# Altium footprint library RaspComputeModule_4_IO.PcbLib: 40 footprints (part 2 of 3)
Each footprint in its own frame and in the unit in brackets; x right, y up, seen from the top. Pads: shape width x height; smd on the part's side, far side on the other; paste and mask are expansions set on the pad; w line width, h text height; cw(c..) or ccw(c..) is an arc to the next point about the centre after c.
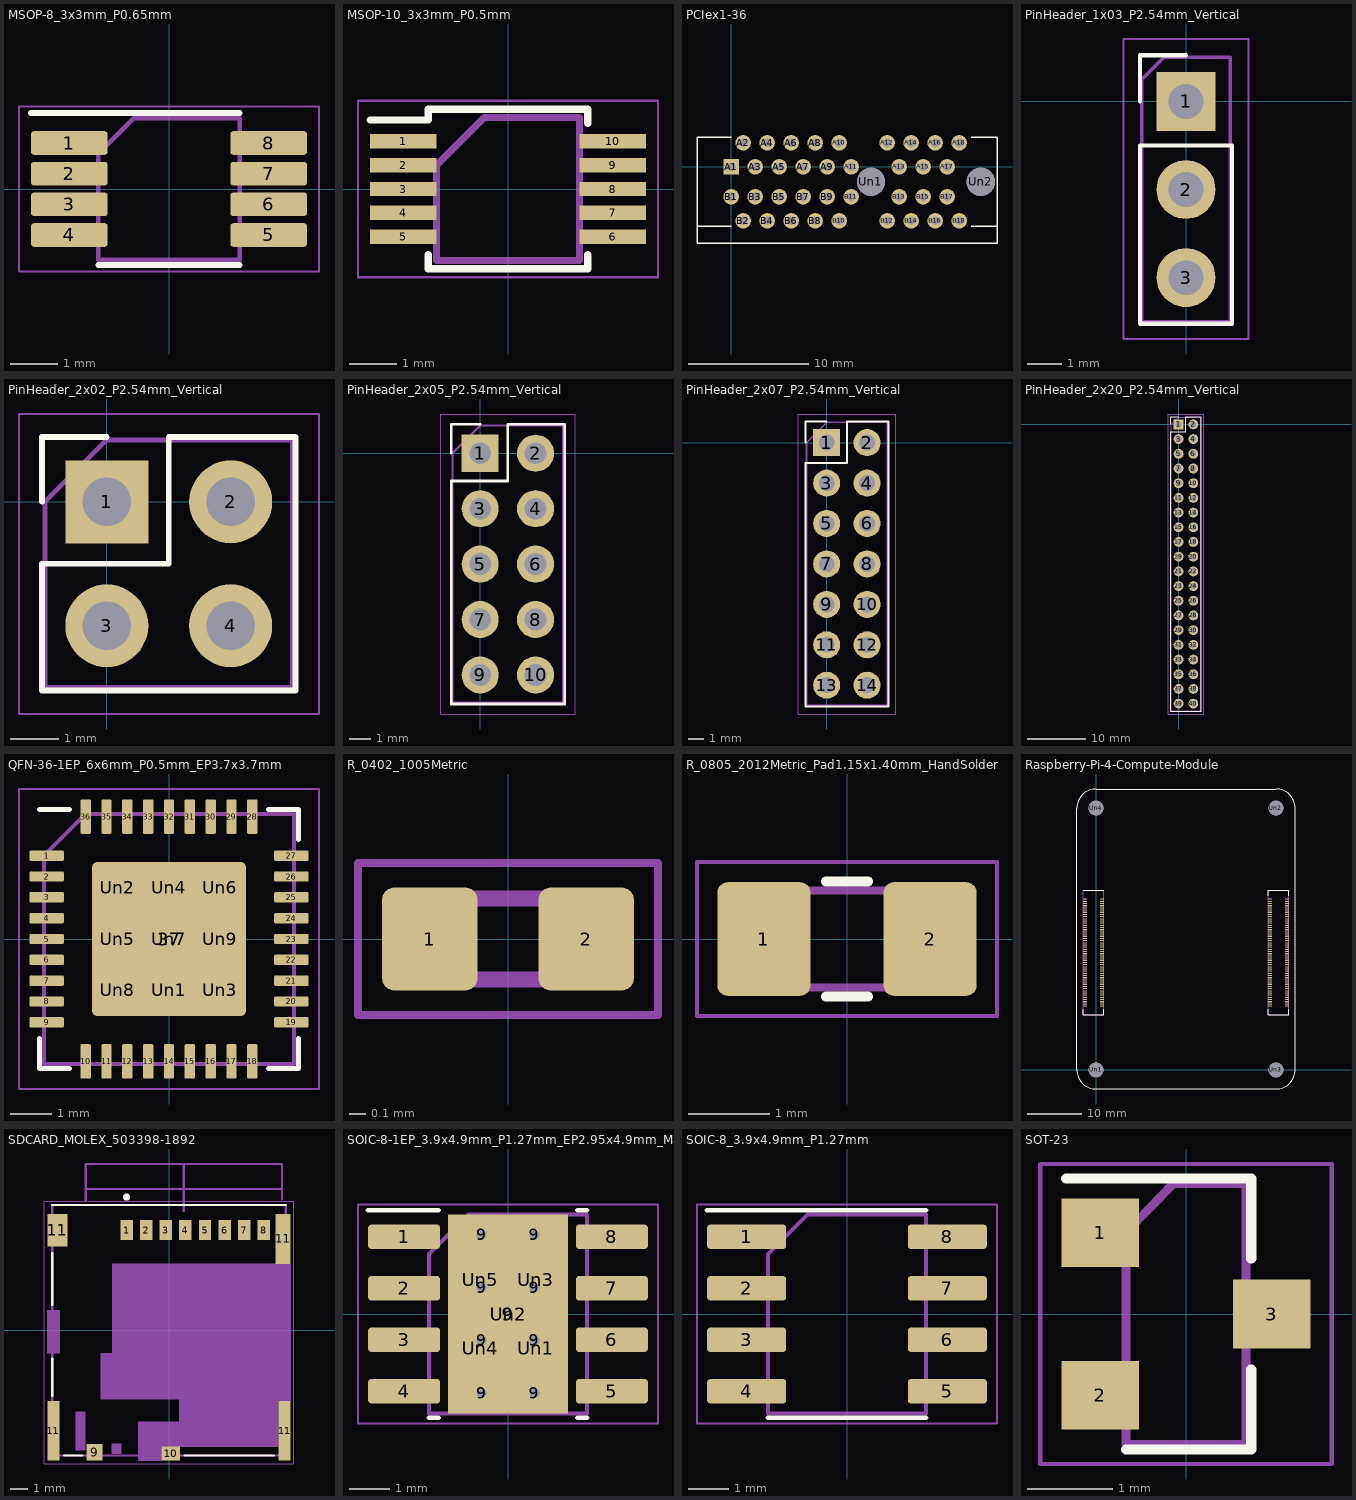
[diagram p1: the footprints below, top view; thin cyan lines are the x and y axes]

## MSOP-8_3x3mm_P0.65mm [mm]
pads (8):
  rrect25% 1.625x0.5 smd mask+0: 1(-2.113,0.975) 2(-2.113,0.325) 3(-2.113,-0.325) 4(-2.113,-0.975) 5(2.113,-0.975) 6(2.113,-0.325) 7(2.113,0.325) 8(2.113,0.975)
Top Overlay:
  lines w0.12: -2.925,1.61 0,1.61 1.5,1.61 ; -1.5,-1.61 0,-1.61 1.5,-1.61
Mechanical 4:
  lines w0.05: -3.18,-1.75 3.18,-1.75 3.18,1.75 -3.18,1.75 -3.18,-1.75
Mechanical 6:
  lines w0.1: -1.5,-1.5 1.5,-1.5 1.5,1.5 -0.75,1.5 -1.5,0.75 -1.5,-1.5
  text "${REFERENCE}" at -4.773,-0.912 h1

## MSOP-10_3x3mm_P0.5mm [mm]
pads (10):
  rect 1.4x0.3 smd mask+0: 1(-2.2,1) 2(-2.2,0.5) 3(-2.2,0) 4(-2.2,-0.5) 5(-2.2,-1) 6(2.2,-1) 7(2.2,-0.5) 8(2.2,0) 9(2.2,0.5) 10(2.2,1)
Top Overlay:
  lines w0.15: -2.9,1.45 -1.675,1.45 -1.675,1.675 1.675,1.675 1.675,1.375 ; -1.675,-1.375 -1.675,-1.675 1.675,-1.675 1.675,-1.375
Mechanical 4:
  lines w0.05: -3.15,-1.85 3.15,-1.85 3.15,1.85 -3.15,1.85 -3.15,-1.85
Mechanical 6:
  lines w0.15: -1.5,-1.5 1.5,-1.5 1.5,1.5 -0.5,1.5 -1.5,0.5 -1.5,-1.5
  text "${REFERENCE}" at -2.924,-0.607 h0.6

## PCIex1-36 [mm]
pads (38):
  rect 1.3x1.3 hole 0.7 paste-1.3: A1(0,0)
  round 1.3 hole 0.7 paste-1.3: A2(1,2) A3(2,0) A4(3,2) A5(4,0) A6(5,2) A7(6,0) A8(7,2) A9(8,0) A10(9,2) A11(10,0) A12(13,2) A13(14,0) A14(15,2) A15(16,0) A16(17,2) A17(18,0) A18(19,2) B1(0,-2.5) B2(1,-4.5) B3(2,-2.5) B4(3,-4.5) B5(4,-2.5) B6(5,-4.5) B7(6,-2.5) B8(7,-4.5) B9(8,-2.5) B10(9,-4.5) B11(10,-2.5) B12(13,-4.5) B13(14,-2.5) B14(15,-4.5) B15(16,-2.5) B16(17,-4.5) B17(18,-2.5) B18(19,-4.5)
  round 2.35 hole 2.35 paste-2.35: Un1(11.65,-1.25) Un2(20.8,-1.25)
Top Overlay:
  lines w0.12: -2.85,-4.95 0,-4.95 ; 0,2.45 -2.85,2.45 -2.85,-6.35 22.15,-6.35 22.15,2.45 20,2.45 ; 20,-4.95 22.15,-4.95

## PinHeader_1x03_P2.54mm_Vertical [mm]
pads (3):
  rect 1.7x1.7 hole 1 paste-1.7: 1(0,0)
  rrect100% 1.7x1.7 hole 1 paste-1.7: 2(0,-2.54) 3(0,-5.08)
Top Overlay:
  lines w0.12: -1.33,0 -1.33,1.33 0,1.33 ; -1.33,-6.41 1.33,-6.41 1.33,-1.27 -1.33,-1.27 -1.33,-6.41
Mechanical 4:
  lines w0.05: -1.8,-6.85 1.8,-6.85 1.8,1.8 -1.8,1.8 -1.8,-6.85
Mechanical 6:
  lines w0.1: -1.27,-6.35 -1.27,0.635 -0.635,1.27 1.27,1.27 1.27,-6.35 -1.27,-6.35
  text "${REFERENCE}" at 0.912,-7.313 h1

## PinHeader_2x02_P2.54mm_Vertical [mm]
pads (4):
  rect 1.7x1.7 hole 1 paste-1.7: 1(0,0)
  rrect100% 1.7x1.7 hole 1 paste-1.7: 2(2.54,0) 3(0,-2.54) 4(2.54,-2.54)
Top Overlay:
  lines w0.12: -1.33,0 -1.33,1.33 0,1.33 ; -1.33,-3.87 -1.33,-1.27 1.27,-1.27 1.27,1.33 3.87,1.33 3.87,-3.87 -1.33,-3.87
Mechanical 4:
  lines w0.05: -1.8,-4.35 -1.8,1.8 4.35,1.8 4.35,-4.35 -1.8,-4.35
Mechanical 6:
  lines w0.1: -1.27,-3.81 -1.27,0 0,1.27 3.81,1.27 3.81,-3.81 -1.27,-3.81
  text "${REFERENCE}" at 2.182,-6.043 h1

## PinHeader_2x05_P2.54mm_Vertical [mm]
pads (10):
  rect 1.7x1.7 hole 1 paste-1.7: 1(0,0)
  rrect100% 1.7x1.7 hole 1 paste-1.7: 2(2.54,0) 3(0,-2.54) 4(2.54,-2.54) 5(0,-5.08) 6(2.54,-5.08) 7(0,-7.62) 8(2.54,-7.62) 9(0,-10.16) 10(2.54,-10.16)
Top Overlay:
  lines w0.12: -1.33,0 -1.33,1.33 0,1.33 ; -1.33,-11.49 3.87,-11.49 3.87,1.33 1.27,1.33 1.27,-1.27 -1.33,-1.27 -1.33,-11.49
Mechanical 4:
  lines w0.05: -1.8,-11.95 4.35,-11.95 4.35,1.8 -1.8,1.8 -1.8,-11.95
Mechanical 6:
  lines w0.1: -1.27,-11.43 3.81,-11.43 3.81,1.27 0,1.27 -1.27,0 -1.27,-11.43
  text "${REFERENCE}" at 2.182,-9.853 h1

## PinHeader_2x07_P2.54mm_Vertical [mm]
pads (14):
  rect 1.7x1.7 hole 1 paste-1.7: 1(0,0)
  rrect100% 1.7x1.7 hole 1 paste-1.7: 2(2.54,0) 3(0,-2.54) 4(2.54,-2.54) 5(0,-5.08) 6(2.54,-5.08) 7(0,-7.62) 8(2.54,-7.62) 9(0,-10.16) 10(2.54,-10.16) 11(0,-12.7) 12(2.54,-12.7) 13(0,-15.24) 14(2.54,-15.24)
Top Overlay:
  lines w0.12: -1.33,0 -1.33,1.33 0,1.33 ; -1.33,-16.57 -1.33,-1.27 1.27,-1.27 1.27,1.33 3.87,1.33 3.87,-16.57 -1.33,-16.57
Mechanical 4:
  lines w0.05: -1.8,-17.05 4.35,-17.05 4.35,1.8 -1.8,1.8 -1.8,-17.05
Mechanical 6:
  lines w0.1: -1.27,-16.51 3.81,-16.51 3.81,1.27 0,1.27 -1.27,0 -1.27,-16.51
  text "${REFERENCE}" at 0.358,-2.847 h1

## PinHeader_2x20_P2.54mm_Vertical [mm]
pads (40):
  rect 1.7x1.7 hole 1 paste-1.7: 1(0,0)
  rrect100% 1.7x1.7 hole 1 paste-1.7: 2(2.54,0) 3(0,-2.54) 4(2.54,-2.54) 5(0,-5.08) 6(2.54,-5.08) 7(0,-7.62) 8(2.54,-7.62) 9(0,-10.16) 10(2.54,-10.16) 11(0,-12.7) 12(2.54,-12.7) 13(0,-15.24) 14(2.54,-15.24) 15(0,-17.78) 16(2.54,-17.78) 17(0,-20.32) 18(2.54,-20.32) 19(0,-22.86) 20(2.54,-22.86) 21(0,-25.4) 22(2.54,-25.4) 23(0,-27.94) 24(2.54,-27.94) 25(0,-30.48) 26(2.54,-30.48) 27(0,-33.02) 28(2.54,-33.02) 29(0,-35.56) 30(2.54,-35.56) 31(0,-38.1) 32(2.54,-38.1) 33(0,-40.64) 34(2.54,-40.64) 35(0,-43.18) 36(2.54,-43.18) 37(0,-45.72) 38(2.54,-45.72) 39(0,-48.26) 40(2.54,-48.26)
Top Overlay:
  lines w0.12: -1.33,0 -1.33,1.33 0,1.33 ; -1.33,-49.59 3.87,-49.59 3.87,1.33 1.27,1.33 1.27,-1.27 -1.33,-1.27 -1.33,-49.59
Mechanical 4:
  lines w0.05: -1.8,-50.05 4.35,-50.05 4.35,1.8 -1.8,1.8 -1.8,-50.05
Mechanical 6:
  lines w0.1: -1.27,-49.53 -1.27,0 0,1.27 3.81,1.27 3.81,-49.53 -1.27,-49.53
  text "${REFERENCE}" at 0.358,-19.357 h1

## QFN-36-1EP_6x6mm_P0.5mm_EP3.7x3.7mm [mm]
pads (46):
  rrect25% 0.825x0.25 smd mask+0: 1(-2.937,2) 2(-2.937,1.5) 3(-2.937,1) 4(-2.937,0.5) 5(-2.937,0) 6(-2.937,-0.5) 7(-2.937,-1) 8(-2.937,-1.5) 9(-2.937,-2) 19(2.937,-2) 20(2.937,-1.5) 21(2.937,-1) 22(2.937,-0.5) 23(2.937,0) 24(2.937,0.5) 25(2.937,1) 26(2.937,1.5) 27(2.937,2)
  rrect25% 0.25x0.825 smd mask+0: 10(-2,-2.937) 11(-1.5,-2.937) 12(-1,-2.937) 13(-0.5,-2.937) 14(0,-2.937) 15(0.5,-2.937) 16(1,-2.937) 17(1.5,-2.937) 18(2,-2.937) 28(2,2.937) 29(1.5,2.937) 30(1,2.937) 31(0.5,2.937) 32(0,2.937) 33(-0.5,2.937) 34(-1,2.937) 35(-1.5,2.937) 36(-2,2.937)
  rrect7% 3.7x3.7 smd paste-3.7 mask+0: 37(0,0)
  rrect50% 0.99x0.99 on Top Paste mask-0.99: Un1(0,-1.23) Un2(-1.23,1.23) Un3(1.23,-1.23) Un4(0,1.23) Un5(-1.23,0) Un6(1.23,1.23) Un7(0,0) Un8(-1.23,-1.23) Un9(1.23,0)
Top Overlay:
  lines w0.12: -3.11,-2.385 -3.11,-3.11 -2.385,-3.11 ; -3.11,3.11 -2.385,3.11 ; 2.385,-3.11 3.11,-3.11 3.11,-2.385 ; 2.385,3.11 3.11,3.11 3.11,2.385
Mechanical 4:
  lines w0.05: -3.6,-3.6 -3.6,3.6 3.6,3.6 3.6,-3.6 -3.6,-3.6
Mechanical 6:
  lines w0.1: -3,-3 -3,2 -2,3 3,3 3,-3 -3,-3
  text "${REFERENCE}" at -4.773,-0.912 h1

## R_0402_1005Metric [mm]
pads (2):
  rrect25% 0.59x0.64 smd mask+0: 1(-0.485,0) 2(0.485,0)
Mechanical 4:
  lines w0.05: -0.93,-0.47 -0.93,0.47 0.93,0.47 0.93,-0.47 -0.93,-0.47
Mechanical 6:
  lines w0.1: -0.5,-0.25 0.5,-0.25 0.5,0.25 -0.5,0.25 -0.5,-0.25
  text "${REFERENCE}" at -1.196,-0.23 h0.25

## R_0805_2012Metric_Pad1.15x1.40mm_HandSolder [mm]
pads (2):
  rrect22% 1.15x1.4 smd mask+0: 1(-1.025,0) 2(1.025,0)
Top Overlay:
  lines w0.12: -0.261,-0.71 0.261,-0.71 ; -0.261,0.71 0.261,0.71
Mechanical 4:
  lines w0.05: -1.85,-0.95 -1.85,0.95 1.85,0.95 1.85,-0.95 -1.85,-0.95
Mechanical 6:
  lines w0.1: -1,-0.6 -1,0.6 1,0.6 1,-0.6 -1,-0.6
  text "${REFERENCE}" at -2.391,-0.461 h0.5

## Raspberry-Pi-4-Compute-Module [mm]
pads (204):
  rect 0.7x0.2 smd mask+0: 1(-2,31.3) 2(1.08,31.3) 3(-2,30.9) 4(1.08,30.9) 5(-2,30.5) 6(1.08,30.5) 7(-2,30.1) 8(1.08,30.1) 9(-2,29.7) 10(1.08,29.7) 11(-2,29.3) 12(1.08,29.3) 13(-2,28.9) 14(1.08,28.9) 15(-2,28.5) 16(1.08,28.5) 17(-2,28.1) 18(1.08,28.1) 19(-2,27.7) 20(1.08,27.7) 21(-2,27.3) 22(1.08,27.3) 23(-2,26.9) 24(1.08,26.9) 25(-2,26.5) 26(1.08,26.5) 27(-2,26.1) 28(1.08,26.1) 29(-2,25.7) 30(1.08,25.7) 31(-2,25.3) 32(1.08,25.3) 33(-2,24.9) 34(1.08,24.9) 35(-2,24.5) 36(1.08,24.5) 37(-2,24.1) 38(1.08,24.1) 39(-2,23.7) 40(1.08,23.7) 41(-2,23.3) 42(1.08,23.3) 43(-2,22.9) 44(1.08,22.9) 45(-2,22.5) 46(1.08,22.5) 47(-2,22.1) 48(1.08,22.1) 49(-2,21.7) 50(1.08,21.7) 51(-2,21.3) 52(1.08,21.3) 53(-2,20.9) 54(1.08,20.9) 55(-2,20.5) 56(1.08,20.5) 57(-2,20.1) 58(1.08,20.1) 59(-2,19.7) 60(1.08,19.7) 61(-2,19.3) 62(1.08,19.3) 63(-2,18.9) 64(1.08,18.9) 65(-2,18.5) 66(1.08,18.5) 67(-2,18.1) 68(1.08,18.1) 69(-2,17.7) 70(1.08,17.7) 71(-2,17.3) 72(1.08,17.3) 73(-2,16.9) 74(1.08,16.9) 75(-2,16.5) 76(1.08,16.5) 77(-2,16.1) 78(1.08,16.1) 79(-2,15.7) 80(1.08,15.7) 81(-2,15.3) 82(1.08,15.3) 83(-2,14.9) 84(1.08,14.9) 85(-2,14.5) 86(1.08,14.5) 87(-2,14.1) 88(1.08,14.1) 89(-2,13.7) 90(1.08,13.7) 91(-2,13.3) 92(1.08,13.3) 93(-2,12.9) 94(1.08,12.9) 95(-2,12.5) 96(1.08,12.5) 97(-2,12.1) 98(1.08,12.1) 99(-2,11.7) 100(1.08,11.7) 101(31.92,31.3) 102(35,31.3) 103(31.92,30.9) 104(35,30.9) 105(31.92,30.5) 106(35,30.5) 107(31.92,30.1) 108(35,30.1) 109(31.92,29.7) 110(35,29.7) 111(31.92,29.3) 112(35,29.3) 113(31.92,28.9) 114(35,28.9) 115(31.92,28.5) 116(35,28.5) 117(31.92,28.1) 118(35,28.1) 119(31.92,27.7) 120(35,27.7) 121(31.92,27.3) 122(35,27.3) 123(31.92,26.9) 124(35,26.9) 125(31.92,26.5) 126(35,26.5) 127(31.92,26.1) 128(35,26.1) 129(31.92,25.7) 130(35,25.7) 131(31.92,25.3) 132(35,25.3) 133(31.92,24.9) 134(35,24.9) 135(31.92,24.5) 136(35,24.5) 137(31.92,24.1) 138(35,24.1) 139(31.92,23.7) 140(35,23.7) 141(31.92,23.3) 142(35,23.3) 143(31.92,22.9) 144(35,22.9) 145(31.92,22.5) 146(35,22.5) 147(31.92,22.1) 148(35,22.1) 149(31.92,21.7) 150(35,21.7) 151(31.92,21.3) 152(35,21.3) 153(31.92,20.9) 154(35,20.9) 155(31.92,20.5) 156(35,20.5) 157(31.92,20.1) 158(35,20.1) 159(31.92,19.7) 160(35,19.7) 161(31.92,19.3) 162(35,19.3) 163(31.92,18.9) 164(35,18.9) 165(31.92,18.5) 166(35,18.5) 167(31.92,18.1) 168(35,18.1) 169(31.92,17.7) 170(35,17.7) 171(31.92,17.3) 172(35,17.3) 173(31.92,16.9) 174(35,16.9) 175(31.92,16.5) 176(35,16.5) 177(31.92,16.1) 178(35,16.1) 179(31.92,15.7) 180(35,15.7) 181(31.92,15.3) 182(35,15.3) 183(31.92,14.9) 184(35,14.9) 185(31.92,14.5) 186(35,14.5) 187(31.92,14.1) 188(35,14.1) 189(31.92,13.7) 190(35,13.7) 191(31.92,13.3) 192(35,13.3) 193(31.92,12.9) 194(35,12.9) 195(31.92,12.5) 196(35,12.5) 197(31.92,12.1) 198(35,12.1) 199(31.92,11.7) 200(35,11.7)
  round 2.7 hole 2.7 paste-2.7 mask+1.7: Un1(0,0) Un2(33,48) Un3(33,0) Un4(0,48)
Top Overlay:
  lines w0.12: -2.35,11.1 -2.35,10.1 1.43,10.1 1.43,11.1 ; -2.35,32.9 1.43,32.9 ; 31.57,11.1 31.57,10.1 35.35,10.1 35.35,11.1 ; 31.57,31.9 31.57,32.9 35.35,32.9 35.35,31.9 ; -3.5,0 ccw(c0,0) 0,-3.5 33,-3.5 ccw(c33,0) 36.5,0 36.5,48 ccw(c33,48) 33,51.5 0,51.5 ccw(c0,48) -3.5,48 -3.5,0
Mechanical 4:
  lines w0.12: -2.35,10.1 1.43,10.1 1.43,32.9 -2.35,32.9 -2.35,10.1 ; 31.57,10.1 31.57,32.9 35.35,32.9 35.35,10.1 31.57,10.1

## SDCARD_MOLEX_503398-1892 [mm]
pads (14):
  rect 0.7x1.1 smd mask+0: 1(-2.38,5.625) 2(-1.28,5.625) 3(-0.18,5.625) 4(0.92,5.625) 5(2.02,5.625) 6(3.12,5.625) 7(4.22,5.625) 8(5.32,5.625)
  rect 0.9x0.93 smd mask+0: 9(-4.17,-6.84)
  rect 1.05x0.78 smd mask+0: 10(0.095,-6.915)
  rect 0.7x3.33 smd mask+0: 11(-6.48,-5.64) 11(6.48,-5.64)
  rect 1.14x1.83 smd mask+0: 11(-6.26,5.61)
  rect 0.86x2.8 smd mask+0: 11(6.4,5.125)
Top Overlay:
  circle w0.2: c-2.38,7.475 r0.1
  lines w0.127: -6.55,-3.675 -6.55,-1.575 ; -6.55,1.425 -6.55,4.325 ; -6.55,7.025 6.55,7.025 ; -5.876,-7.025 -4.874,-7.025 ; 0.874,-7.025 5.876,-7.025
Mechanical 2:
  region: -4.685,-6.738 -5.245,-6.738 -5.245,-4.575 -4.685,-4.575
  region: -6.13,-1.277 -6.842,-1.277 -6.842,1.125 -6.13,1.125
  region: -4.685,-6.73 -5.239,-6.73 -5.239,-4.575 -4.685,-4.575
  region: -2.67,-6.937 -3.225,-6.937 -3.225,-6.375 -2.67,-6.375
  region: 6.83,-3.975 6.13,-3.975 6.13,-6.525 -0.43,-6.525 -0.43,-7.305 -1.73,-7.305 -1.73,-5.125 0.57,-5.125 0.57,-3.875 -3.82,-3.875 -3.82,-1.275 -3.17,-1.275 -3.17,3.725 6.83,3.725
  region: -2.67,-6.93 -3.223,-6.93 -3.223,-6.375 -2.67,-6.375
  region: 6.83,-3.975 6.13,-3.975 6.13,-6.525 -0.43,-6.525 -0.43,-7.305 -1.73,-7.305 -1.73,-5.125 0.57,-5.125 0.57,-3.875 -3.82,-3.875 -3.82,-1.275 -3.17,-1.275 -3.17,3.725 6.83,3.725
  region: -6.13,-1.276 -6.836,-1.276 -6.836,1.125 -6.13,1.125
  lines w0.12: -4.67,7.28 -4.67,9.33 6.33,9.33 6.33,7.35 ; -4.67,7.93 6.33,7.93 ; 0.83,6.7 0.83,9.33
Mechanical 4:
  lines w0.05: -7,-7.5 7,-7.5 7,7.25 -7,7.25 -7,-7.5
Mechanical 6:
  circle w0.2: c-2.38,5.775 r0.1
  lines w0.127: -6.55,-7.025 -6.55,7.025 6.55,7.025 6.55,-7.025 -6.55,-7.025
  text "${REFERENCE}" at 4.698,-0.613 h1
Mechanical 7:
  text "KEEPOUT" at 0.526,5.06 h0.4

## SOIC-8-1EP_3.9x4.9mm_P1.27mm_EP2.95x4.9mm_Mask2.71x3.4mm_ThermalVias [mm]
pads (23):
  rrect25% 1.775x0.6 smd mask+0: 1(-2.562,1.905) 2(-2.562,0.635) 3(-2.562,-0.635) 4(-2.562,-1.905) 5(2.562,-1.905) 6(2.562,-0.635) 7(2.562,0.635) 8(2.562,1.905)
  round 0.5 hole 0.25 paste-0.5 mask-0.5: 9(-0.65,-1.95) 9(-0.65,-0.65) 9(-0.65,0.65) 9(-0.65,1.95) 9(0.65,-1.95) 9(0.65,-0.65) 9(0.65,0.65) 9(0.65,1.95)
  rect 2.95x4.9 smd paste-4.9 mask-4.9: 9(0,0)
  rect 1.8x4.4 smd far side paste-4.4 mask+0.1: 9(0,0)
  rrect50% 1.13x1.42 on Top Paste mask-1.42: Un1(0.68,-0.85) Un3(0.68,0.85) Un4(-0.68,-0.85) Un5(-0.68,0.85)
  rect 2.71x3.4 on Top Solder paste-3.4 mask-3.4: Un2(0,0)
Top Overlay:
  lines w0.12: -3.45,2.56 -1.711,2.56 ; -1.95,-2.56 -1.711,-2.56 ; 1.711,-2.56 1.95,-2.56 ; 1.711,2.56 1.95,2.56
Mechanical 4:
  lines w0.05: -3.7,-2.7 3.7,-2.7 3.7,2.7 -3.7,2.7 -3.7,-2.7
Mechanical 6:
  lines w0.1: -1.95,-2.45 1.95,-2.45 1.95,2.45 -0.975,2.45 -1.95,1.475 -1.95,-2.45
  text "${REFERENCE}" at -4.68,-0.897 h0.98

## SOIC-8_3.9x4.9mm_P1.27mm [mm]
pads (8):
  rrect25% 1.95x0.6 smd mask+0: 1(-2.475,1.905) 2(-2.475,0.635) 3(-2.475,-0.635) 4(-2.475,-1.905) 5(2.475,-1.905) 6(2.475,-0.635) 7(2.475,0.635) 8(2.475,1.905)
Top Overlay:
  lines w0.12: -3.45,2.56 0,2.56 1.95,2.56 ; -1.95,-2.56 0,-2.56 1.95,-2.56
Mechanical 4:
  lines w0.05: -3.7,-2.7 3.7,-2.7 3.7,2.7 -3.7,2.7 -3.7,-2.7
Mechanical 6:
  lines w0.1: -1.95,-2.45 1.95,-2.45 1.95,2.45 -0.975,2.45 -1.95,1.475 -1.95,-2.45
  text "${REFERENCE}" at 4.68,0.897 h0.98

## SOT-23 [mm]
pads (3):
  rect 0.9x0.8 smd mask+0: 1(-1,0.95) 2(-1,-0.95) 3(1,0)
Top Overlay:
  lines w0.12: -1.4,1.58 0.76,1.58 0.76,0.65 ; -0.7,-1.58 0.76,-1.58 0.76,-0.65
Mechanical 4:
  lines w0.05: -1.7,-1.75 1.7,-1.75 1.7,1.75 -1.7,1.75 -1.7,-1.75
Mechanical 6:
  lines w0.1: -0.7,-1.52 0.7,-1.52 0.7,1.52 -0.15,1.52 -0.7,0.95 -0.7,-1.5
  text "${REFERENCE}" at -0.456,2.386 h0.5